# EAGLE library part LMX2326 (library kiss_z)
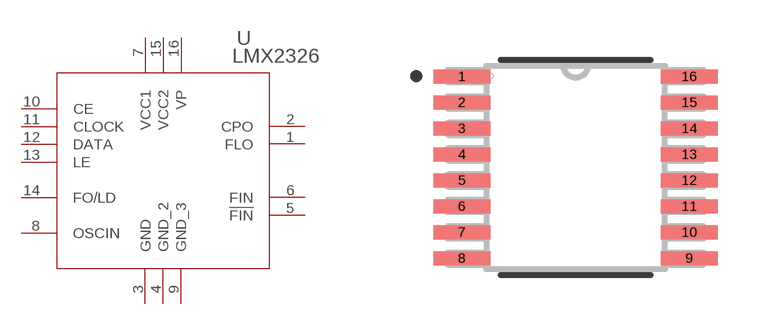
[diagram p0: symbol with the pads of MTC16; footprint MTC16]

Designator prefix U

## LMX2326  [MTC16]
1  FLO  pas
2  CPO  pas
3  GND  pas
4  GND_2  pas
5  !FIN  pas
6  FIN  pas
7  VCC1  pas
8  OSCIN  pas
9  GND_3  pas
10  CE  pas
11  CLOCK  pas
12  DATA  pas
13  LE  pas
14  FO/LD  pas
15  VCC2  pas
16  VP  pas

## Footprint MTC16 (pad centres in mm)
smd 1.422 x 0.356: 1 -2.845,2.275; 2 -2.845,1.625; 3 -2.845,0.975; 4 -2.845,0.325; 5 -2.845,-0.325; 6 -2.845,-0.975; 7 -2.845,-1.625; 8 -2.845,-2.275; 9 2.845,-2.275; 10 2.845,-1.625; 11 2.845,-0.975; 12 2.845,-0.325; 13 2.845,0.325; 14 2.845,0.975; 15 2.845,1.625; 16 2.845,2.275